# Altium integrated library AMP CompactPCI Type A.IntLib: 18 symbols
Pins are listed as number, name and electrical type; pins without a type are passive.

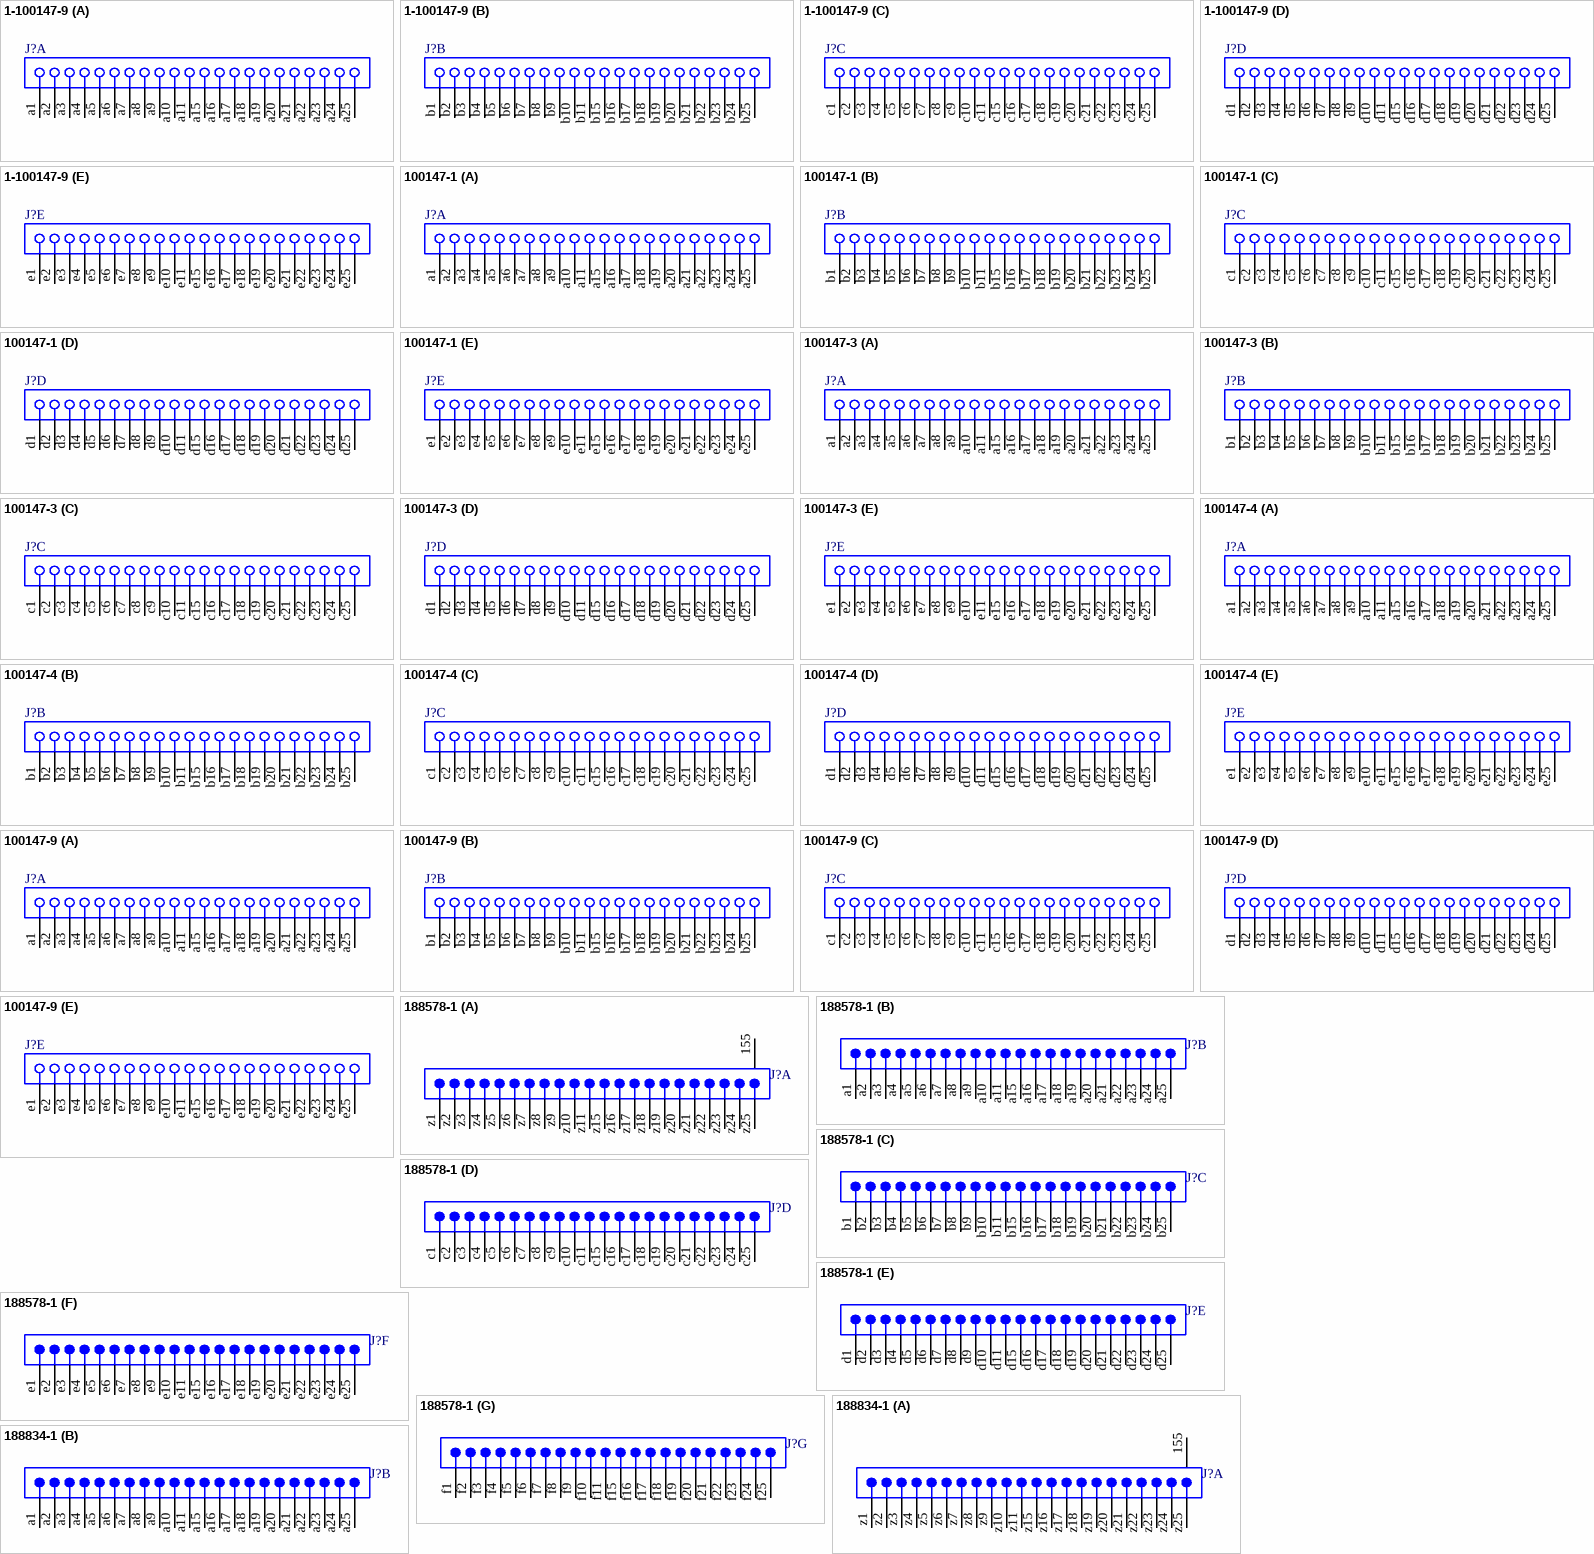
[diagram p0: symbols 1-100147-9 to 188834-1]

## 1-100147-9
designator J?
Z-Pack 2mm Hard Metric Type A 110 Position Female PCB Mount Connector; ContactMaterial: Phosphor Bronze; ContactPlating: Gold (50) over Nickel (50); Positions: 110; PCB_Layout: Complies with manufacturer's recommendation.; DrillSize: Corresponds to nominal value.; Published: 17-Jul-2002; LatestRevisionDate: 29-May-2009; LatestRevisionNote: Component Body Added.; DatasheetVersion: 11-Jul-2000; PackageVersion: 11-Jul-2000; PackageReference: 1-100147-9; Publisher: Altium Limited; Orientation: Right Angle; HousingMaterial: Glass-Filled Polyester; ComponentLink1Description: Manufacturer Link; ComponentLink1URL: http://www.tycoelectronics.com/; ComponentLink2Description: Packaging Specification; ComponentLink2URL: http://ecommas.tycoelectronics.com/commerce/DocumentDelivery/DDEController?Action=showdoc&DocId=Customer+Drawing%7F100147%7FM%7Fpdf%7FEnglish%7FENG_CD_100147_M.pdf
footprint 1-100147-9 (Connector; CompactPCI; 110 Position; Right Angle)
signal-integrity model CompactPCI
part A pins: a1, a2, a3, a4, a5, a6, a7, a8, a9, a10, a11, a15, a16, a17, a18, a19, a20, a21, a22, a23, a24, a25
part B pins: b1, b2, b3, b4, b5, b6, b7, b8, b9, b10, b11, b15, b16, b17, b18, b19, b20, b21, b22, b23, b24, b25
part C pins: c1, c2, c3, c4, c5, c6, c7, c8, c9, c10, c11, c15, c16, c17, c18, c19, c20, c21, c22, c23, c24, c25
part D pins: d1, d2, d3, d4, d5, d6, d7, d8, d9, d10, d11, d15, d16, d17, d18, d19, d20, d21, d22, d23, d24, d25
part E pins: e1, e2, e3, e4, e5, e6, e7, e8, e9, e10, e11, e15, e16, e17, e18, e19, e20, e21, e22, e23, e24, e25

## 100147-1
designator J?
Z-Pack 2mm Hard Metric Type A 110 Position Female PCB Mount Connector; ContactMaterial: Phosphor Bronze; ContactPlating: Gold (30) over Nickel (50); Positions: 110; PCB_Layout: Complies with manufacturer's recommendation.; DrillSize: Corresponds to nominal value.; Published: 17-Jul-2002; LatestRevisionDate: 29-May-2009; LatestRevisionNote: Component Body Added.; DatasheetVersion: 11-Jul-2000; PackageVersion: 11-Jul-2000; PackageReference: 100147-1; Publisher: Altium Limited; Orientation: Right Angle; HousingMaterial: PBT - GF; ComponentLink1Description: Manufacturer Link; ComponentLink1URL: http://www.tycoelectronics.com/; ComponentLink2Description: Packaging Specification; ComponentLink2URL: http://ecommas.tycoelectronics.com/commerce/DocumentDelivery/DDEController?Action=showdoc&DocId=Customer+Drawing%7F100147%7FM%7Fpdf%7FEnglish%7FENG_CD_100147_M.pdf
footprint 100147-1 (Connector; CompactPCI; 110 Position; Right Angle)
signal-integrity model CompactPCI
part A pins: a1, a2, a3, a4, a5, a6, a7, a8, a9, a10, a11, a15, a16, a17, a18, a19, a20, a21, a22, a23, a24, a25
part B pins: b1, b2, b3, b4, b5, b6, b7, b8, b9, b10, b11, b15, b16, b17, b18, b19, b20, b21, b22, b23, b24, b25
part C pins: c1, c2, c3, c4, c5, c6, c7, c8, c9, c10, c11, c15, c16, c17, c18, c19, c20, c21, c22, c23, c24, c25
part D pins: d1, d2, d3, d4, d5, d6, d7, d8, d9, d10, d11, d15, d16, d17, d18, d19, d20, d21, d22, d23, d24, d25
part E pins: e1, e2, e3, e4, e5, e6, e7, e8, e9, e10, e11, e15, e16, e17, e18, e19, e20, e21, e22, e23, e24, e25

## 100147-3
designator J?
Z-Pack 2mm Hard Metric Type A 110 Position Female PCB Mount Connector; ContactMaterial: Phosphor Bronze; ContactPlating: Gold (80) over Nickel; Positions: 110; PCB_Layout: Complies with manufacturer's recommendation.; DrillSize: Corresponds to nominal value.; ComponentAvailability: Obsolete; Published: 17-Jul-2002; LatestRevisionDate: 29-May-2009; LatestRevisionNote: Component Body Added.; DatasheetVersion: 11-Jul-2000; PackageVersion: 11-Jul-2000; PackageReference: 100147-3; Publisher: Altium Limited; Orientation: Right Angle; HousingMaterial: Glass-Filled Polyester; ComponentLink1Description: Manufacturer Link; ComponentLink1URL: http://www.tycoelectronics.com/; ComponentLink2Description: Packaging Specification; ComponentLink2URL: http://ecommas.tycoelectronics.com/commerce/DocumentDelivery/DDEController?Action=showdoc&DocId=Customer+Drawing%7F100147%7FM%7Fpdf%7FEnglish%7FENG_CD_100147_M.pdf
footprint 100147-3 (Connector; CompactPCI; 110 Position; Right Angle)
signal-integrity model CompactPCI
part A pins: a1, a2, a3, a4, a5, a6, a7, a8, a9, a10, a11, a15, a16, a17, a18, a19, a20, a21, a22, a23, a24, a25
part B pins: b1, b2, b3, b4, b5, b6, b7, b8, b9, b10, b11, b15, b16, b17, b18, b19, b20, b21, b22, b23, b24, b25
part C pins: c1, c2, c3, c4, c5, c6, c7, c8, c9, c10, c11, c15, c16, c17, c18, c19, c20, c21, c22, c23, c24, c25
part D pins: d1, d2, d3, d4, d5, d6, d7, d8, d9, d10, d11, d15, d16, d17, d18, d19, d20, d21, d22, d23, d24, d25
part E pins: e1, e2, e3, e4, e5, e6, e7, e8, e9, e10, e11, e15, e16, e17, e18, e19, e20, e21, e22, e23, e24, e25

## 100147-4
designator J?
Z-Pack 2mm Hard Metric Type A 110 Position Female PCB Mount Connector; ContactMaterial: Phosphor Bronze; ContactPlating: Gold (50) over Nickel (50); Positions: 110; PCB_Layout: Complies with manufacturer's recommendation.; DrillSize: Corresponds to nominal value.; Published: 17-Jul-2002; LatestRevisionDate: 29-May-2009; LatestRevisionNote: Component Body Added.; DatasheetVersion: 11-Jul-2000; PackageVersion: 11-Jul-2000; PackageReference: 100147-4; Publisher: Altium Limited; Orientation: Right Angle; HousingMaterial: Glass-Filled Polyester; ComponentLink1Description: Manufacturer Link; ComponentLink1URL: http://www.tycoelectronics.com/; ComponentLink2Description: Packaging Specification; ComponentLink2URL: http://ecommas.tycoelectronics.com/commerce/DocumentDelivery/DDEController?Action=showdoc&DocId=Customer+Drawing%7F100147%7FM%7Fpdf%7FEnglish%7FENG_CD_100147_M.pdf
footprint 100147-4 (Connector; CompactPCI; 110 Position; Right Angle)
signal-integrity model CompactPCI
part A pins: a1, a2, a3, a4, a5, a6, a7, a8, a9, a10, a11, a15, a16, a17, a18, a19, a20, a21, a22, a23, a24, a25
part B pins: b1, b2, b3, b4, b5, b6, b7, b8, b9, b10, b11, b15, b16, b17, b18, b19, b20, b21, b22, b23, b24, b25
part C pins: c1, c2, c3, c4, c5, c6, c7, c8, c9, c10, c11, c15, c16, c17, c18, c19, c20, c21, c22, c23, c24, c25
part D pins: d1, d2, d3, d4, d5, d6, d7, d8, d9, d10, d11, d15, d16, d17, d18, d19, d20, d21, d22, d23, d24, d25
part E pins: e1, e2, e3, e4, e5, e6, e7, e8, e9, e10, e11, e15, e16, e17, e18, e19, e20, e21, e22, e23, e24, e25

## 100147-9
designator J?
Z-Pack 2mm Hard Metric Type A 110 Position Female PCB Mount Connector; ContactMaterial: Phosphor Bronze; ContactPlating: Gold (30) over Nickel (50); Positions: 110; PCB_Layout: Complies with manufacturer's recommendation.; DrillSize: Corresponds to nominal value.; Published: 17-Jul-2002; LatestRevisionDate: 29-May-2009; LatestRevisionNote: Component Body Added.; DatasheetVersion: 11-Jul-2000; PackageVersion: 11-Jul-2000; PackageReference: 100147-9; Publisher: Altium Limited; Orientation: Right Angle; HousingMaterial: Glass-Filled Polyester; ComponentLink1Description: Manufacturer Link; ComponentLink1URL: http://www.tycoelectronics.com/; ComponentLink2Description: Packaging Specification; ComponentLink2URL: http://ecommas.tycoelectronics.com/commerce/DocumentDelivery/DDEController?Action=showdoc&DocId=Customer+Drawing%7F100147%7FM%7Fpdf%7FEnglish%7FENG_CD_100147_M.pdf
footprint 100147-9 (Connector; CompactPCI; 110 Position; Right Angle)
signal-integrity model CompactPCI
part A pins: a1, a2, a3, a4, a5, a6, a7, a8, a9, a10, a11, a15, a16, a17, a18, a19, a20, a21, a22, a23, a24, a25
part B pins: b1, b2, b3, b4, b5, b6, b7, b8, b9, b10, b11, b15, b16, b17, b18, b19, b20, b21, b22, b23, b24, b25
part C pins: c1, c2, c3, c4, c5, c6, c7, c8, c9, c10, c11, c15, c16, c17, c18, c19, c20, c21, c22, c23, c24, c25
part D pins: d1, d2, d3, d4, d5, d6, d7, d8, d9, d10, d11, d15, d16, d17, d18, d19, d20, d21, d22, d23, d24, d25
part E pins: e1, e2, e3, e4, e5, e6, e7, e8, e9, e10, e11, e15, e16, e17, e18, e19, e20, e21, e22, e23, e24, e25

## 188578-1
designator J?
Z-Pack 2mm Hard Metric Type A 154 Position Male PCB Mount Connector; ContactMaterial: Phosphor Bronze; ContactPlating: Gold (30) over Nickel (50); Positions: 154; PCB_Layout: Complies with manufacturer's recommendation.; DrillSize: Corresponds to nominal value.; Published: 17-Jul-2002; LatestRevisionDate: 29-May-2009; LatestRevisionNote: Component Body Added.; DatasheetVersion: 6-Mar-2000; PackageVersion: 06-Mar-2000; PackageReference: 188578-1; Publisher: Altium Limited; Orientation: Vertical; HousingMaterial: Glass-Filled Polyester; ComponentLink1Description: Manufacturer Link; ComponentLink1URL: http://www.tycoelectronics.com/; ComponentLink2Description: Packaging Specification; ComponentLink2URL: http://ecommas.tycoelectronics.com/commerce/DocumentDelivery/DDEController?Action=showdoc&DocId=Customer+Drawing%7F188578%7FC%7Fpdf%7FEnglish%7FENG_CD_188578_C.pdf; ComponentLink3Description: URL Link1; ComponentLink3URL: http://catalog.tycoelectronics.com/TE/docs/cadgeo/6/65/38566.tar.gz
footprint 188578-1 (Connector; CompactPCI; 154 Position; Vertical)
signal-integrity model CompactPCI
part A pins: 155 MH1, z1, z2, z3, z4, z5, z6, z7, z8, z9, z10, z11, z15, z16, z17, z18, z19, z20, z21, z22, z23, z24, z25
part B pins: a1, a2, a3, a4, a5, a6, a7, a8, a9, a10, a11, a15, a16, a17, a18, a19, a20, a21, a22, a23, a24, a25
part C pins: b1, b2, b3, b4, b5, b6, b7, b8, b9, b10, b11, b15, b16, b17, b18, b19, b20, b21, b22, b23, b24, b25
part D pins: c1, c2, c3, c4, c5, c6, c7, c8, c9, c10, c11, c15, c16, c17, c18, c19, c20, c21, c22, c23, c24, c25
part E pins: d1, d2, d3, d4, d5, d6, d7, d8, d9, d10, d11, d15, d16, d17, d18, d19, d20, d21, d22, d23, d24, d25
part F pins: e1, e2, e3, e4, e5, e6, e7, e8, e9, e10, e11, e15, e16, e17, e18, e19, e20, e21, e22, e23, e24, e25
part G pins: f1, f2, f3, f4, f5, f6, f7, f8, f9, f10, f11, f15, f16, f17, f18, f19, f20, f21, f22, f23, f24, f25

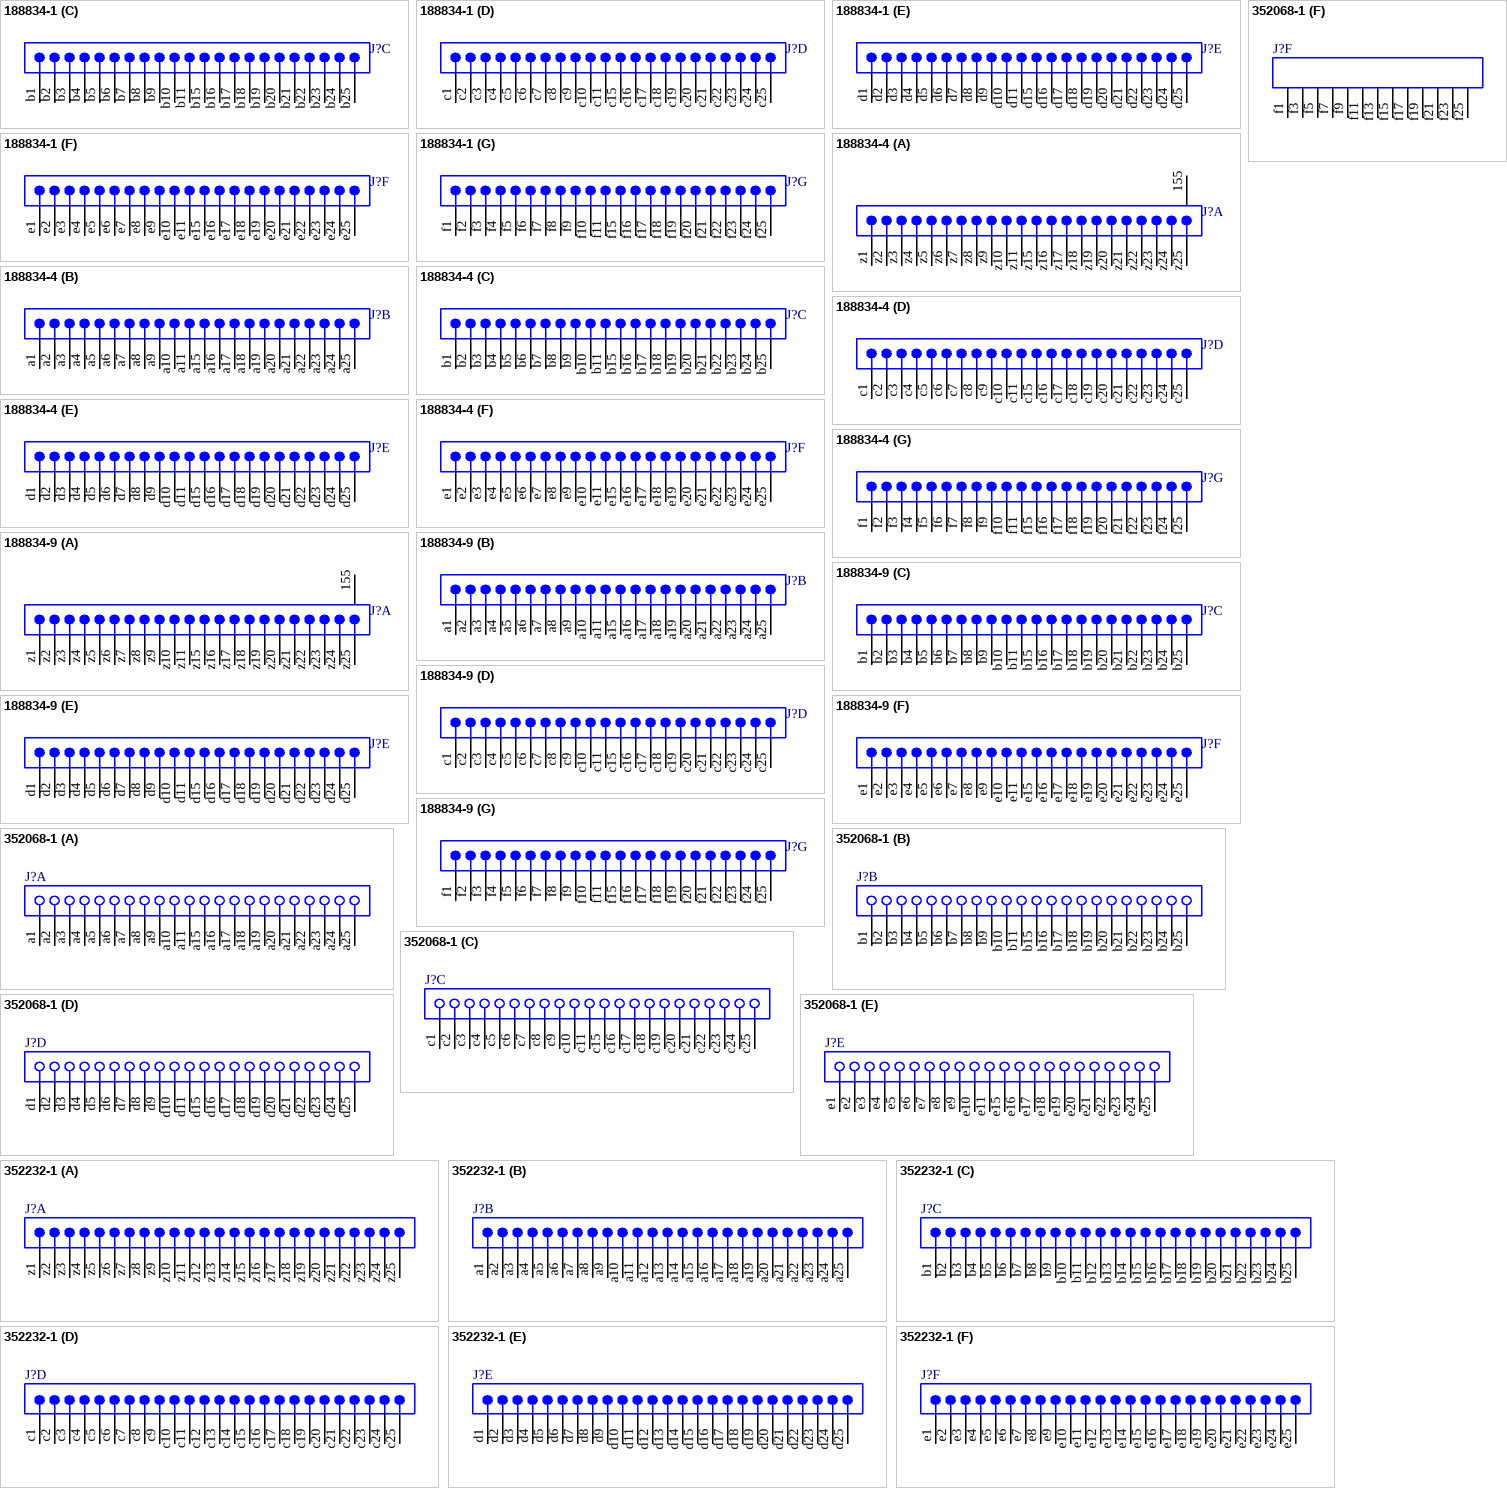
[diagram p1: symbols 188834-1 to 352232-1]

## 188834-1
designator J?
Z-Pack 2mm Hard Metric Type A 154 Position Male PCB Mount Connector; ContactMaterial: Phosphor Bronze; ContactPlating: Gold (30) over Nickel (50); Positions: 154; PCB_Layout: Complies with manufacturer's recommendation.; DrillSize: Corresponds to nominal value.; Published: 17-Jul-2002; LatestRevisionDate: 29-May-2009; LatestRevisionNote: Component Body Added.; DatasheetVersion: 22-Jan-1999; PackageVersion: 22-Jan-1999; PackageReference: 188834-1; Publisher: Altium Limited; Orientation: Vertical; HousingMaterial: Glass-Filled Polyester, UL 94V-0; ComponentLink1Description: Manufacturer Link; ComponentLink1URL: http://www.tycoelectronics.com/; ComponentLink2Description: Packaging Specification; ComponentLink2URL: http://ecommas.tycoelectronics.com/commerce/DocumentDelivery/DDEController?Action=showdoc&DocId=Customer+Drawing%7F188834%7FB%7Fpdf%7FEnglish%7FENG_CD_188834_B.pdf; ComponentLink3Description: Iges Model; ComponentLink3URL: http://catalog.tycoelectronics.com/TE/docs/cadgeo/0/75/38570.tar.gz
footprint 188834-1 (Connector; CompactPCI; 154 Position; Vertical)
signal-integrity model CompactPCI
part A pins: 155 MH1, z1, z2, z3, z4, z5, z6, z7, z8, z9, z10, z11, z15, z16, z17, z18, z19, z20, z21, z22, z23, z24, z25
part B pins: a1, a2, a3, a4, a5, a6, a7, a8, a9, a10, a11, a15, a16, a17, a18, a19, a20, a21, a22, a23, a24, a25
part C pins: b1, b2, b3, b4, b5, b6, b7, b8, b9, b10, b11, b15, b16, b17, b18, b19, b20, b21, b22, b23, b24, b25
part D pins: c1, c2, c3, c4, c5, c6, c7, c8, c9, c10, c11, c15, c16, c17, c18, c19, c20, c21, c22, c23, c24, c25
part E pins: d1, d2, d3, d4, d5, d6, d7, d8, d9, d10, d11, d15, d16, d17, d18, d19, d20, d21, d22, d23, d24, d25
part F pins: e1, e2, e3, e4, e5, e6, e7, e8, e9, e10, e11, e15, e16, e17, e18, e19, e20, e21, e22, e23, e24, e25
part G pins: f1, f2, f3, f4, f5, f6, f7, f8, f9, f10, f11, f15, f16, f17, f18, f19, f20, f21, f22, f23, f24, f25

## 188834-4
designator J?
Z-Pack 2mm Hard Metric Type A 154 Position Male PCB Mount Connector; ContactMaterial: Phosphor Bronze; ContactPlating: Gold (50) over Nickel (50); Positions: 154; PCB_Layout: Complies with manufacturer's recommendation.; DrillSize: Corresponds to nominal value.; Published: 17-Jul-2002; LatestRevisionDate: 29-May-2009; LatestRevisionNote: Component Body Added.; DatasheetVersion: 22-Jan-1999; PackageVersion: 22-Jan-1999; PackageReference: 188834-4; Publisher: Altium Limited; Orientation: Vertical; HousingMaterial: Glass-Filled Polyester, UL 94V-0; ComponentLink1Description: Manufacturer Link; ComponentLink1URL: http://www.tycoelectronics.com/; ComponentLink2Description: Packaging Specification; ComponentLink2URL: http://ecommas.tycoelectronics.com/commerce/DocumentDelivery/DDEController?Action=showdoc&DocId=Customer+Drawing%7F188834%7FB%7Fpdf%7FEnglish%7FENG_CD_188834_B.pdf; ComponentLink3Description: Iges Model; ComponentLink3URL: http://catalog.tycoelectronics.com/TE/docs/cadgeo/0/75/38570.tar.gz
footprint 188834-4 (Connector; CompactPCI; 154 Position; Vertical)
signal-integrity model CompactPCI
part A pins: 155 MH1, z1, z2, z3, z4, z5, z6, z7, z8, z9, z10, z11, z15, z16, z17, z18, z19, z20, z21, z22, z23, z24, z25
part B pins: a1, a2, a3, a4, a5, a6, a7, a8, a9, a10, a11, a15, a16, a17, a18, a19, a20, a21, a22, a23, a24, a25
part C pins: b1, b2, b3, b4, b5, b6, b7, b8, b9, b10, b11, b15, b16, b17, b18, b19, b20, b21, b22, b23, b24, b25
part D pins: c1, c2, c3, c4, c5, c6, c7, c8, c9, c10, c11, c15, c16, c17, c18, c19, c20, c21, c22, c23, c24, c25
part E pins: d1, d2, d3, d4, d5, d6, d7, d8, d9, d10, d11, d15, d16, d17, d18, d19, d20, d21, d22, d23, d24, d25
part F pins: e1, e2, e3, e4, e5, e6, e7, e8, e9, e10, e11, e15, e16, e17, e18, e19, e20, e21, e22, e23, e24, e25
part G pins: f1, f2, f3, f4, f5, f6, f7, f8, f9, f10, f11, f15, f16, f17, f18, f19, f20, f21, f22, f23, f24, f25

## 188834-9
designator J?
Z-Pack 2mm Hard Metric Type A 154 Position Male PCB Mount Connector; ContactMaterial: Phosphor Bronze; ContactPlating: Gold (30) over Nickel (50); Positions: 154; PCB_Layout: Complies with manufacturer's recommendation.; DrillSize: Corresponds to nominal value.; Published: 17-Jul-2002; LatestRevisionDate: 29-May-2009; LatestRevisionNote: Component Body Added.; DatasheetVersion: 22-Jan-1999; PackageVersion: 22-Jan-1999; PackageReference: 188834-9; Publisher: Altium Limited; Orientation: Vertical; HousingMaterial: Glass-Filled Polyester, UL 94V-0; ComponentLink1Description: Manufacturer Link; ComponentLink1URL: http://www.tycoelectronics.com/; ComponentLink2Description: Packaging Specification; ComponentLink2URL: http://ecommas.tycoelectronics.com/commerce/DocumentDelivery/DDEController?Action=showdoc&DocId=Customer+Drawing%7F188834%7FB%7Fpdf%7FEnglish%7FENG_CD_188834_B.pdf; ComponentLink3Description: Iges Model; ComponentLink3URL: http://catalog.tycoelectronics.com/TE/docs/cadgeo/0/75/38570.tar.gz
footprint 188834-9 (Connector; CompactPCI; 154 Position; Vertical)
signal-integrity model CompactPCI
part A pins: 155 MH1, z1, z2, z3, z4, z5, z6, z7, z8, z9, z10, z11, z15, z16, z17, z18, z19, z20, z21, z22, z23, z24, z25
part B pins: a1, a2, a3, a4, a5, a6, a7, a8, a9, a10, a11, a15, a16, a17, a18, a19, a20, a21, a22, a23, a24, a25
part C pins: b1, b2, b3, b4, b5, b6, b7, b8, b9, b10, b11, b15, b16, b17, b18, b19, b20, b21, b22, b23, b24, b25
part D pins: c1, c2, c3, c4, c5, c6, c7, c8, c9, c10, c11, c15, c16, c17, c18, c19, c20, c21, c22, c23, c24, c25
part E pins: d1, d2, d3, d4, d5, d6, d7, d8, d9, d10, d11, d15, d16, d17, d18, d19, d20, d21, d22, d23, d24, d25
part F pins: e1, e2, e3, e4, e5, e6, e7, e8, e9, e10, e11, e15, e16, e17, e18, e19, e20, e21, e22, e23, e24, e25
part G pins: f1, f2, f3, f4, f5, f6, f7, f8, f9, f10, f11, f15, f16, f17, f18, f19, f20, f21, f22, f23, f24, f25

## 352068-1
designator J?
Z-Pack 2mm Hard Metric Type A 110 Position Female PCB Mount Connector; ContactMaterial: Phosphor Bronze; ContactPlating: Gold (30) over Nickel (50); Positions: 110; PCB_Layout: Complies with manufacturer's recommendation.; DrillSize: Corresponds to nominal value.; Published: 17-Jul-2002; LatestRevisionDate: 29-May-2009; LatestRevisionNote: Component Body Added.; DatasheetVersion: 19-Jul-2000; PackageVersion: 19-Jul-2000; PackageReference: 352068-1; Publisher: Altium Limited; Orientation: Right Angle; HousingMaterial: Glass-Filled Polyester, UL 94V-0; ComponentLink1Description: Manufacturer Link; ComponentLink1URL: http://www.tycoelectronics.com/; ComponentLink2Description: Packaging Specification; ComponentLink2URL: http://ecommas.tycoelectronics.com/commerce/DocumentDelivery/DDEController?Action=showdoc&DocId=Customer+Drawing%7F352068%7FG%7Fpdf%7FEnglish%7FENG_CD_352068_G.pdf; ComponentLink3Description: Iges Model; ComponentLink3URL: http://catalog.tycoelectronics.com/TE/docs/cadgeo/2/36/34632.tar.gz
footprint 352068-1 (Connector; CompactPCI; 110 Position; Right Angle)
signal-integrity model CompactPCI
part A pins: a1, a2, a3, a4, a5, a6, a7, a8, a9, a10, a11, a15, a16, a17, a18, a19, a20, a21, a22, a23, a24, a25
part B pins: b1, b2, b3, b4, b5, b6, b7, b8, b9, b10, b11, b15, b16, b17, b18, b19, b20, b21, b22, b23, b24, b25
part C pins: c1, c2, c3, c4, c5, c6, c7, c8, c9, c10, c11, c15, c16, c17, c18, c19, c20, c21, c22, c23, c24, c25
part D pins: d1, d2, d3, d4, d5, d6, d7, d8, d9, d10, d11, d15, d16, d17, d18, d19, d20, d21, d22, d23, d24, d25
part E pins: e1, e2, e3, e4, e5, e6, e7, e8, e9, e10, e11, e15, e16, e17, e18, e19, e20, e21, e22, e23, e24, e25
part F pins: f1, f3, f5, f7, f9, f11, f13, f15, f17, f19, f21, f23, f25

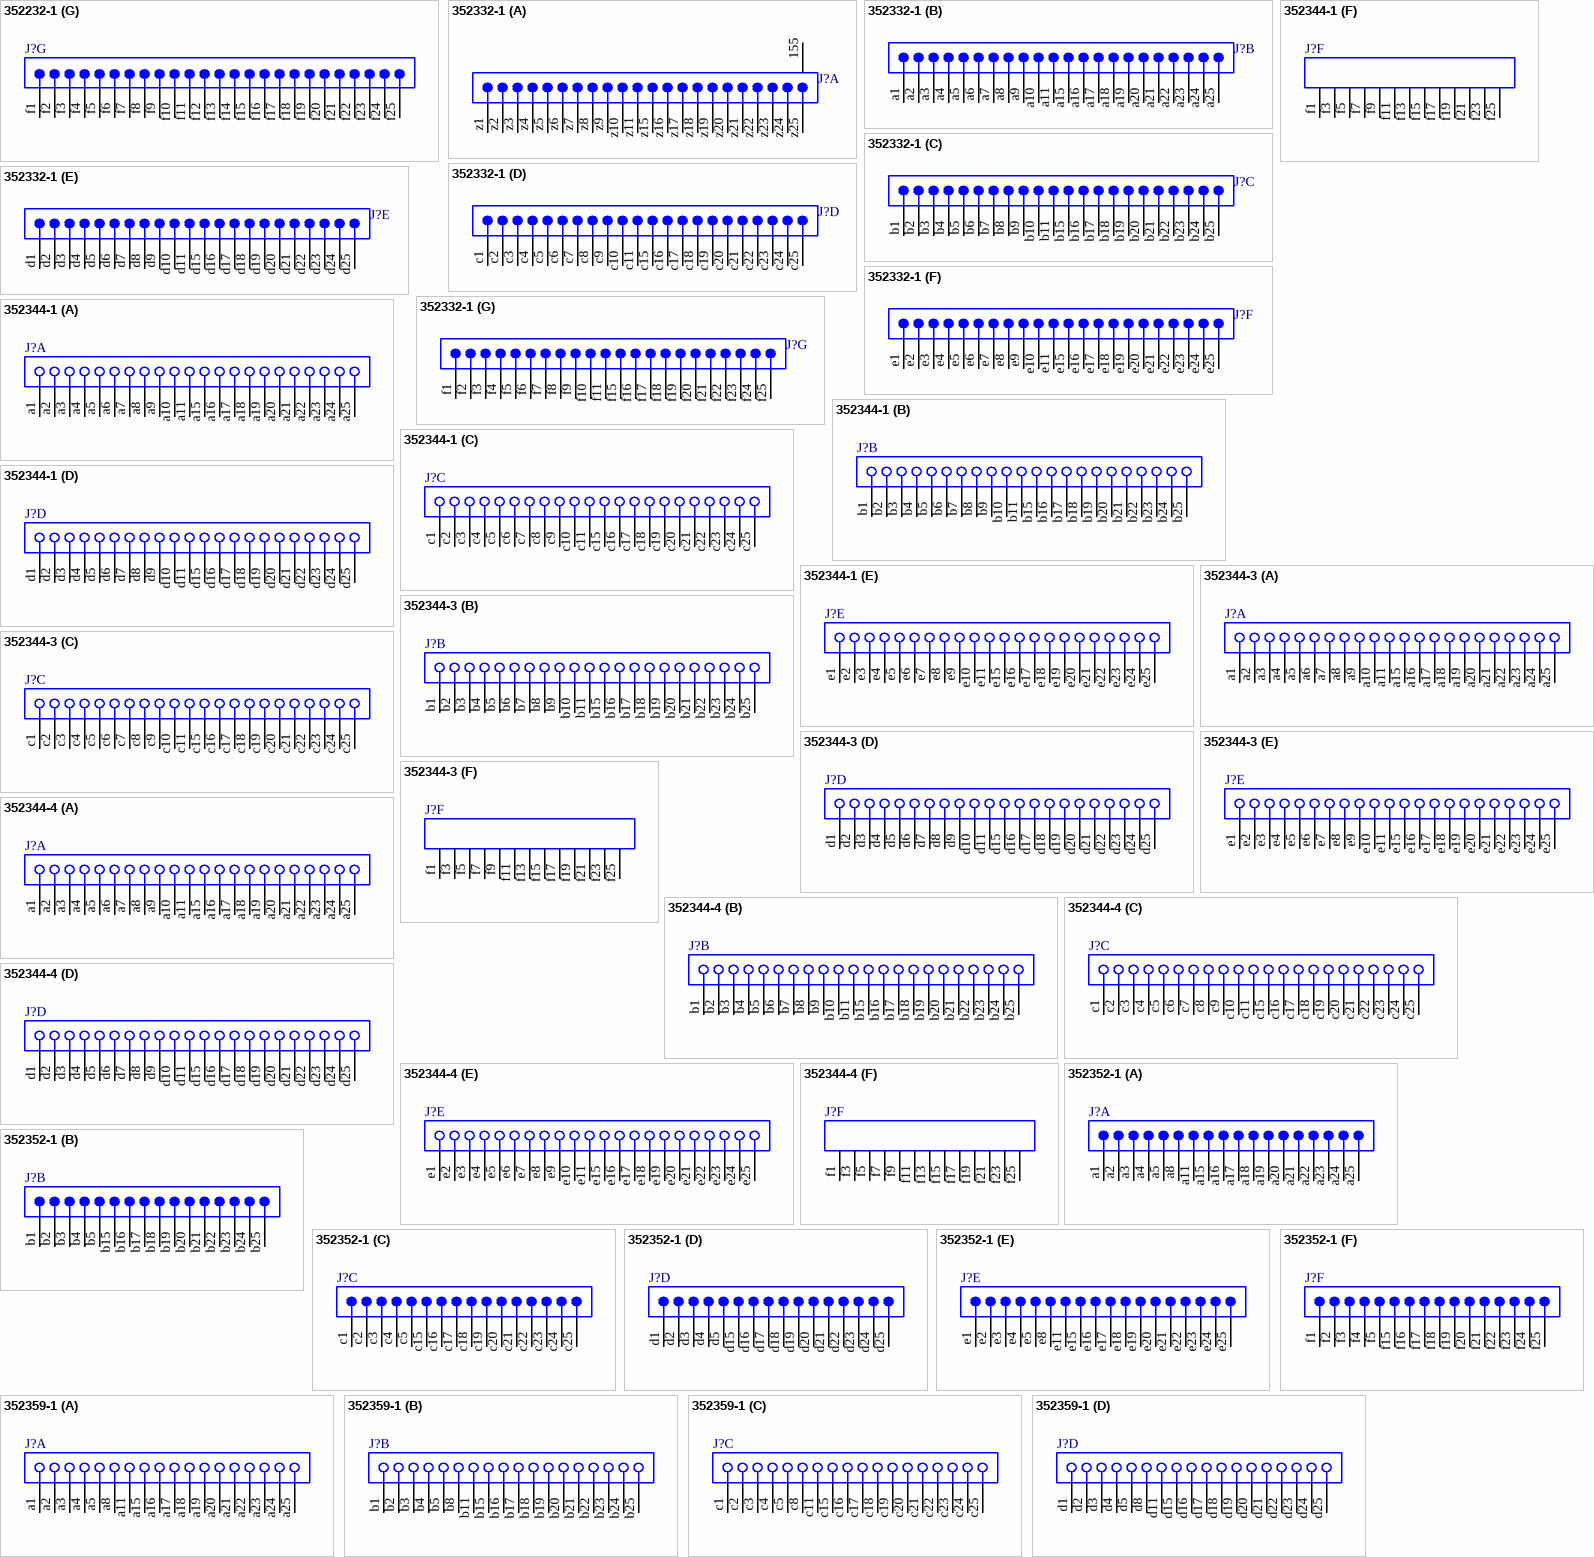
[diagram p2: symbols 352232-1 to 352359-1]

## 352232-1
designator J?
Z-Pack 2mm Hard Metric Type A (22) 175 Position Male PCB Mount Connector; ContactMaterial: Phosphor Bronze; ContactPlating: Gold (30) over Nickel (50); Positions: 175; PCB_Layout: Complies with manufacturer's recommendation.; DrillSize: Corresponds to nominal value.; Published: 17-Jul-2002; LatestRevisionDate: 29-May-2009; LatestRevisionNote: Component Body Added.; DatasheetVersion: 10-May-2000; PackageVersion: 10-May-2000; PackageReference: 352232-1; Publisher: Altium Limited; Orientation: Vertical; HousingMaterial: Glass-Filled Polyester, UL 94V-0; ComponentLink1Description: Manufacturer Link; ComponentLink1URL: http://www.tycoelectronics.com/; ComponentLink2Description: Packaging Specification; ComponentLink2URL: http://ecommas.tycoelectronics.com/commerce/DocumentDelivery/DDEController?Action=showdoc&DocId=Customer+Drawing%7F352232%7FB%7Fpdf%7FEnglish%7FENG_CD_352232_B.pdf
footprint 352232-1 (Connector; CompactPCI; 175 Position; Vertical)
signal-integrity model CompactPCI
part A pins: z1, z2, z3, z4, z5, z6, z7, z8, z9, z10, z11, z12, z13, z14, z15, z16, z17, z18, z19, z20, z21, z22, z23, z24, z25
part B pins: a1, a2, a3, a4, a5, a6, a7, a8, a9, a10, a11, a12, a13, a14, a15, a16, a17, a18, a19, a20, a21, a22, a23, a24, a25
part C pins: b1, b2, b3, b4, b5, b6, b7, b8, b9, b10, b11, b12, b13, b14, b15, b16, b17, b18, b19, b20, b21, b22, b23, b24, b25
part D pins: c1, c2, c3, c4, c5, c6, c7, c8, c9, c10, c11, c12, c13, c14, c15, c16, c17, c18, c19, c20, c21, c22, c23, c24, c25
part E pins: d1, d2, d3, d4, d5, d6, d7, d8, d9, d10, d11, d12, d13, d14, d15, d16, d17, d18, d19, d20, d21, d22, d23, d24, d25
part F pins: e1, e2, e3, e4, e5, e6, e7, e8, e9, e10, e11, e12, e13, e14, e15, e16, e17, e18, e19, e20, e21, e22, e23, e24, e25
part G pins: f1, f2, f3, f4, f5, f6, f7, f8, f9, f10, f11, f12, f13, f14, f15, f16, f17, f18, f19, f20, f21, f22, f23, f24, f25

## 352332-1
designator J?
Z-Pack 2mm Hard Metric Type A (22) 154 Position Male PCB Mount Connector; ContactMaterial: Phosphor Bronze; ContactPlating: Gold (30) over Nickel (50); Positions: 154; PCB_Layout: Complies with manufacturer's recommendation.; DrillSize: Corresponds to nominal value.; Published: 17-Jul-2002; LatestRevisionDate: 29-May-2009; LatestRevisionNote: Component Body Added.; DatasheetVersion: 12-Oct-2000; PackageVersion: 12-Oct-2000; PackageReference: 352332-1; Publisher: Altium Limited; Orientation: Vertical; HousingMaterial: Glass-Filled Polyester, UL 94V-0; ComponentLink1Description: Manufacturer Link; ComponentLink1URL: http://www.tycoelectronics.com/; ComponentLink2Description: Packaging Specification; ComponentLink2URL: http://ecommas.tycoelectronics.com/commerce/DocumentDelivery/DDEController?Action=showdoc&DocId=Customer+Drawing%7F352332%7FC%7Fpdf%7FEnglish%7FENG_CD_352332_C.pdf
footprint 352332-1 (Connector; CompactPCI; 154 Position; Vertical)
signal-integrity model CompactPCI
part A pins: 155 MH1, z1, z2, z3, z4, z5, z6, z7, z8, z9, z10, z11, z15, z16, z17, z18, z19, z20, z21, z22, z23, z24, z25
part B pins: a1, a2, a3, a4, a5, a6, a7, a8, a9, a10, a11, a15, a16, a17, a18, a19, a20, a21, a22, a23, a24, a25
part C pins: b1, b2, b3, b4, b5, b6, b7, b8, b9, b10, b11, b15, b16, b17, b18, b19, b20, b21, b22, b23, b24, b25
part D pins: c1, c2, c3, c4, c5, c6, c7, c8, c9, c10, c11, c15, c16, c17, c18, c19, c20, c21, c22, c23, c24, c25
part E pins: d1, d2, d3, d4, d5, d6, d7, d8, d9, d10, d11, d15, d16, d17, d18, d19, d20, d21, d22, d23, d24, d25
part F pins: e1, e2, e3, e4, e5, e6, e7, e8, e9, e10, e11, e15, e16, e17, e18, e19, e20, e21, e22, e23, e24, e25
part G pins: f1, f2, f3, f4, f5, f6, f7, f8, f9, f10, f11, f15, f16, f17, f18, f19, f20, f21, f22, f23, f24, f25

## 352344-1
designator J?
Z-Pack 2mm Hard Metric Type A 110 Position Female PCB Mount Connector; ContactMaterial: Phosphor Bronze; ContactPlating: Gold (30) over Nickel (50); Positions: 110; PCB_Layout: Complies with manufacturer's recommendation.; DrillSize: Corresponds to nominal value.; Published: 17-Jul-2002; LatestRevisionDate: 29-May-2009; LatestRevisionNote: Component Body Added.; DatasheetVersion: 13-Jul-2000; PackageVersion: 13-Jul-2000; PackageReference: 352344-1; Publisher: Altium Limited; Orientation: Right Angle; HousingMaterial: Glass-Filled Polyester, UL 94V-0; ComponentLink1Description: Manufacturer Link; ComponentLink1URL: http://www.tycoelectronics.com/; ComponentLink2Description: Packaging Specification; ComponentLink2URL: http://ecommas.tycoelectronics.com/commerce/DocumentDelivery/DDEController?Action=showdoc&DocId=Customer+Drawing%7F352344%7FE%7Ftif%7FEnglish%7FENG_CD_352344_E.tif
footprint 352344-1 (Connector; CompactPCI; 110 Position; Right Angle)
signal-integrity model CompactPCI
part A pins: a1, a2, a3, a4, a5, a6, a7, a8, a9, a10, a11, a15, a16, a17, a18, a19, a20, a21, a22, a23, a24, a25
part B pins: b1, b2, b3, b4, b5, b6, b7, b8, b9, b10, b11, b15, b16, b17, b18, b19, b20, b21, b22, b23, b24, b25
part C pins: c1, c2, c3, c4, c5, c6, c7, c8, c9, c10, c11, c15, c16, c17, c18, c19, c20, c21, c22, c23, c24, c25
part D pins: d1, d2, d3, d4, d5, d6, d7, d8, d9, d10, d11, d15, d16, d17, d18, d19, d20, d21, d22, d23, d24, d25
part E pins: e1, e2, e3, e4, e5, e6, e7, e8, e9, e10, e11, e15, e16, e17, e18, e19, e20, e21, e22, e23, e24, e25
part F pins: f1, f3, f5, f7, f9, f11, f13, f15, f17, f19, f21, f23, f25

## 352344-3
designator J?
Z-Pack 2mm Hard Metric Type A 110 Position Female PCB Mount Connector; ContactMaterial: Phosphor Bronze; ContactPlating: Gold (80) over Nickel; Positions: 110; PCB_Layout: Complies with manufacturer's recommendation.; DrillSize: Corresponds to nominal value.; ComponentAvailability: Obsolete; Published: 17-Jul-2002; LatestRevisionDate: 29-May-2009; LatestRevisionNote: Component Body Added.; DatasheetVersion: 13-Jul-2000; PackageVersion: 13-Jul-2000; PackageReference: 352344-3; Publisher: Altium Limited; Orientation: Right Angle; HousingMaterial: Glass-Filled Polyester, UL 94V-0; ComponentLink1Description: Manufacturer Link; ComponentLink1URL: http://www.tycoelectronics.com/; ComponentLink2Description: Packaging Specification; ComponentLink2URL: http://ecommas.tycoelectronics.com/commerce/DocumentDelivery/DDEController?Action=showdoc&DocId=Customer+Drawing%7F352344%7FE%7Ftif%7FEnglish%7FENG_CD_352344_E.tif
footprint 352344-3 (Connector; CompactPCI; 110 Position; Right Angle)
signal-integrity model CompactPCI
part A pins: a1, a2, a3, a4, a5, a6, a7, a8, a9, a10, a11, a15, a16, a17, a18, a19, a20, a21, a22, a23, a24, a25
part B pins: b1, b2, b3, b4, b5, b6, b7, b8, b9, b10, b11, b15, b16, b17, b18, b19, b20, b21, b22, b23, b24, b25
part C pins: c1, c2, c3, c4, c5, c6, c7, c8, c9, c10, c11, c15, c16, c17, c18, c19, c20, c21, c22, c23, c24, c25
part D pins: d1, d2, d3, d4, d5, d6, d7, d8, d9, d10, d11, d15, d16, d17, d18, d19, d20, d21, d22, d23, d24, d25
part E pins: e1, e2, e3, e4, e5, e6, e7, e8, e9, e10, e11, e15, e16, e17, e18, e19, e20, e21, e22, e23, e24, e25
part F pins: f1, f3, f5, f7, f9, f11, f13, f15, f17, f19, f21, f23, f25

## 352344-4
designator J?
Z-Pack 2mm Hard Metric Type A 110 Position Female PCB Mount Connector; ContactMaterial: Phosphor Bronze; ContactPlating: Gold (50) over Nickel (50); Positions: 110; PCB_Layout: Complies with manufacturer's recommendation.; DrillSize: Corresponds to nominal value.; Published: 17-Jul-2002; LatestRevisionDate: 29-May-2009; LatestRevisionNote: Component Body Added.; DatasheetVersion: 13-Jul-2000; PackageVersion: 13-Jul-2000; PackageReference: 352344-4; Publisher: Altium Limited; Orientation: Right Angle; HousingMaterial: Glass-Filled Polyester, UL 94V-0; ComponentLink1Description: Manufacturer Link; ComponentLink1URL: http://www.tycoelectronics.com/; ComponentLink2Description: Packaging Specification; ComponentLink2URL: http://ecommas.tycoelectronics.com/commerce/DocumentDelivery/DDEController?Action=showdoc&DocId=Customer+Drawing%7F352344%7FE%7Ftif%7FEnglish%7FENG_CD_352344_E.tif
footprint 352344-4 (Connector; CompactPCI; 110 Position; Right Angle)
signal-integrity model CompactPCI
part A pins: a1, a2, a3, a4, a5, a6, a7, a8, a9, a10, a11, a15, a16, a17, a18, a19, a20, a21, a22, a23, a24, a25
part B pins: b1, b2, b3, b4, b5, b6, b7, b8, b9, b10, b11, b15, b16, b17, b18, b19, b20, b21, b22, b23, b24, b25
part C pins: c1, c2, c3, c4, c5, c6, c7, c8, c9, c10, c11, c15, c16, c17, c18, c19, c20, c21, c22, c23, c24, c25
part D pins: d1, d2, d3, d4, d5, d6, d7, d8, d9, d10, d11, d15, d16, d17, d18, d19, d20, d21, d22, d23, d24, d25
part E pins: e1, e2, e3, e4, e5, e6, e7, e8, e9, e10, e11, e15, e16, e17, e18, e19, e20, e21, e22, e23, e24, e25
part F pins: f1, f3, f5, f7, f9, f11, f13, f15, f17, f19, f21, f23, f25

## 352352-1
designator J?
Z-Pack 2mm Hard Metric Type A 100 Position Male PCB Mount Connector; ContactMaterial: Phosphor Bronze; ContactPlating: Gold (30) over Nickel (50); Positions: 100; PCB_Layout: Complies with manufacturer's recommendation.; DrillSize: Corresponds to nominal value.; Published: 17-Jul-2002; LatestRevisionDate: 29-May-2009; LatestRevisionNote: Component Body Added.; DatasheetVersion: 30-Jul-1998; PackageVersion: 30-Jul-1998; PackageReference: 352352-1; Publisher: Altium Limited; Orientation: Vertical; HousingMaterial: Glass-Filled Polyester, UL 94V-0; ComponentLink1Description: Manufacturer Link; ComponentLink1URL: http://www.tycoelectronics.com/; ComponentLink2Description: Packaging Specification; ComponentLink2URL: http://ecommas.tycoelectronics.com/commerce/DocumentDelivery/DDEController?Action=showdoc&DocId=Customer+Drawing%7F352352%7FC%7Ftif%7FEnglish%7FENG_CD_352352_C.tif
footprint 352352-1 (Connector; CompactPCI; 100 Position; Vertical)
signal-integrity model CompactPCI
part A pins: a1, a2, a3, a4, a5, a8, a11, a15, a16, a17, a18, a19, a20, a21, a22, a23, a24, a25
part B pins: b1, b2, b3, b4, b5, b15, b16, b17, b18, b19, b20, b21, b22, b23, b24, b25
part C pins: c1, c2, c3, c4, c5, c15, c16, c17, c18, c19, c20, c21, c22, c23, c24, c25
part D pins: d1, d2, d3, d4, d5, d15, d16, d17, d18, d19, d20, d21, d22, d23, d24, d25
part E pins: e1, e2, e3, e4, e5, e8, e11, e15, e16, e17, e18, e19, e20, e21, e22, e23, e24, e25
part F pins: f1, f2, f3, f4, f5, f15, f16, f17, f18, f19, f20, f21, f22, f23, f24, f25

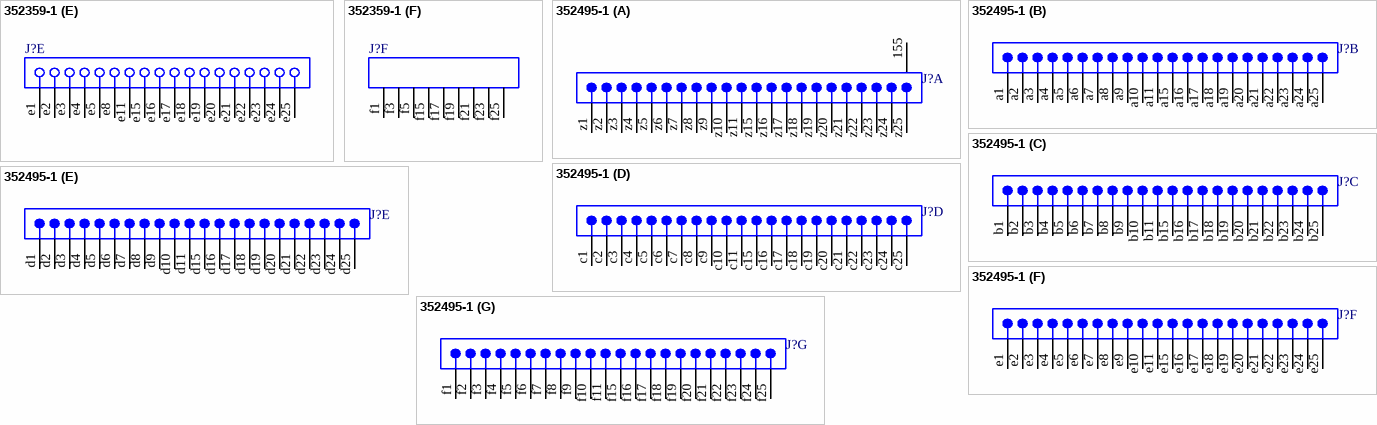
[diagram p3: symbols 352359-1 to 352495-1]

## 352359-1
designator J?
Z-Pack 2mm Hard Metric Type A 90 Position Female PCB Mount Connector; ContactMaterial: Phosphor Bronze; ContactPlating: Gold (30) over Nickel (50); Positions: 90; PCB_Layout: Complies with manufacturer's recommendation.; DrillSize: Corresponds to nominal value.; Published: 17-Jul-2002; LatestRevisionDate: 29-May-2009; LatestRevisionNote: Component Body Added.; DatasheetVersion: 13-Jul-2000; PackageVersion: 13-Jul-2000; PackageReference: 352359-1; Publisher: Altium Limited; Orientation: Right Angle; HousingMaterial: Glass-Filled Polyester, UL 94V-0; ComponentLink1Description: Manufacturer Link; ComponentLink1URL: http://www.tycoelectronics.com/; ComponentLink2Description: Packaging Specification; ComponentLink2URL: http://ecommas.tycoelectronics.com/commerce/DocumentDelivery/DDEController?Action=showdoc&DocId=Customer+Drawing%7F352359%7FF%7Ftif%7FEnglish%7FENG_CD_352359_F.tif; ComponentLink3Description: Iges Model; ComponentLink3URL: http://catalog.tycoelectronics.com/TE/docs/cadgeo/7/50/34057.tar.gz
footprint 352359-1 (Connector; CompactPCI; 90 Position; Right Angle)
signal-integrity model CompactPCI
part A pins: a1, a2, a3, a4, a5, a8, a11, a15, a16, a17, a18, a19, a20, a21, a22, a23, a24, a25
part B pins: b1, b2, b3, b4, b5, b8, b11, b15, b16, b17, b18, b19, b20, b21, b22, b23, b24, b25
part C pins: c1, c2, c3, c4, c5, c8, c11, c15, c16, c17, c18, c19, c20, c21, c22, c23, c24, c25
part D pins: d1, d2, d3, d4, d5, d8, d11, d15, d16, d17, d18, d19, d20, d21, d22, d23, d24, d25
part E pins: e1, e2, e3, e4, e5, e8, e11, e15, e16, e17, e18, e19, e20, e21, e22, e23, e24, e25
part F pins: f1, f3, f5, f15, f17, f19, f21, f23, f25

## 352495-1
designator J?
Z-Pack 2mm Hard Metric Type A 154 Position Male PCB Mount Connector; ContactMaterial: Phosphor Bronze; ContactPlating: Gold (30) over Nickel (50); Positions: 154; PCB_Layout: Complies with manufacturer's recommendation.; DrillSize: Corresponds to nominal value.; Published: 17-Jul-2002; LatestRevisionDate: 29-May-2009; LatestRevisionNote: Component Body Added.; DatasheetVersion: 19-May-1998; PackageVersion: 19-May-1998; PackageReference: 352495-1; Publisher: Altium Limited; Orientation: Vertical; HousingMaterial: Glass-Filled Polyester, UL 94V-0; ComponentLink1Description: Manufacturer Link; ComponentLink1URL: http://www.tycoelectronics.com/; ComponentLink2Description: Packaging Specification; ComponentLink2URL: http://ecommas.tycoelectronics.com/commerce/DocumentDelivery/DDEController?Action=showdoc&DocId=Customer+Drawing%7F352495%7FA1%7Fpdf%7FEnglish%7FENG_CD_352495_A1.pdf
footprint 352495-1 (Connector; CompactPCI; 154 Position; Vertical)
signal-integrity model CompactPCI
part A pins: 155 MH1, z1, z2, z3, z4, z5, z6, z7, z8, z9, z10, z11, z15, z16, z17, z18, z19, z20, z21, z22, z23, z24, z25
part B pins: a1, a2, a3, a4, a5, a6, a7, a8, a9, a10, a11, a15, a16, a17, a18, a19, a20, a21, a22, a23, a24, a25
part C pins: b1, b2, b3, b4, b5, b6, b7, b8, b9, b10, b11, b15, b16, b17, b18, b19, b20, b21, b22, b23, b24, b25
part D pins: c1, c2, c3, c4, c5, c6, c7, c8, c9, c10, c11, c15, c16, c17, c18, c19, c20, c21, c22, c23, c24, c25
part E pins: d1, d2, d3, d4, d5, d6, d7, d8, d9, d10, d11, d15, d16, d17, d18, d19, d20, d21, d22, d23, d24, d25
part F pins: e1, e2, e3, e4, e5, e6, e7, e8, e9, e10, e11, e15, e16, e17, e18, e19, e20, e21, e22, e23, e24, e25
part G pins: f1, f2, f3, f4, f5, f6, f7, f8, f9, f10, f11, f15, f16, f17, f18, f19, f20, f21, f22, f23, f24, f25